# Altium footprint library Chips.PcbLib: 116 footprints (part 1 of 8)
Each footprint in its own frame and in the unit in brackets; x right, y up, seen from the top. Pads: shape width x height; smd on the part's side, far side on the other; paste and mask are expansions set on the pad; w line width, h text height; cw(c..) or ccw(c..) is an arc to the next point about the centre after c.
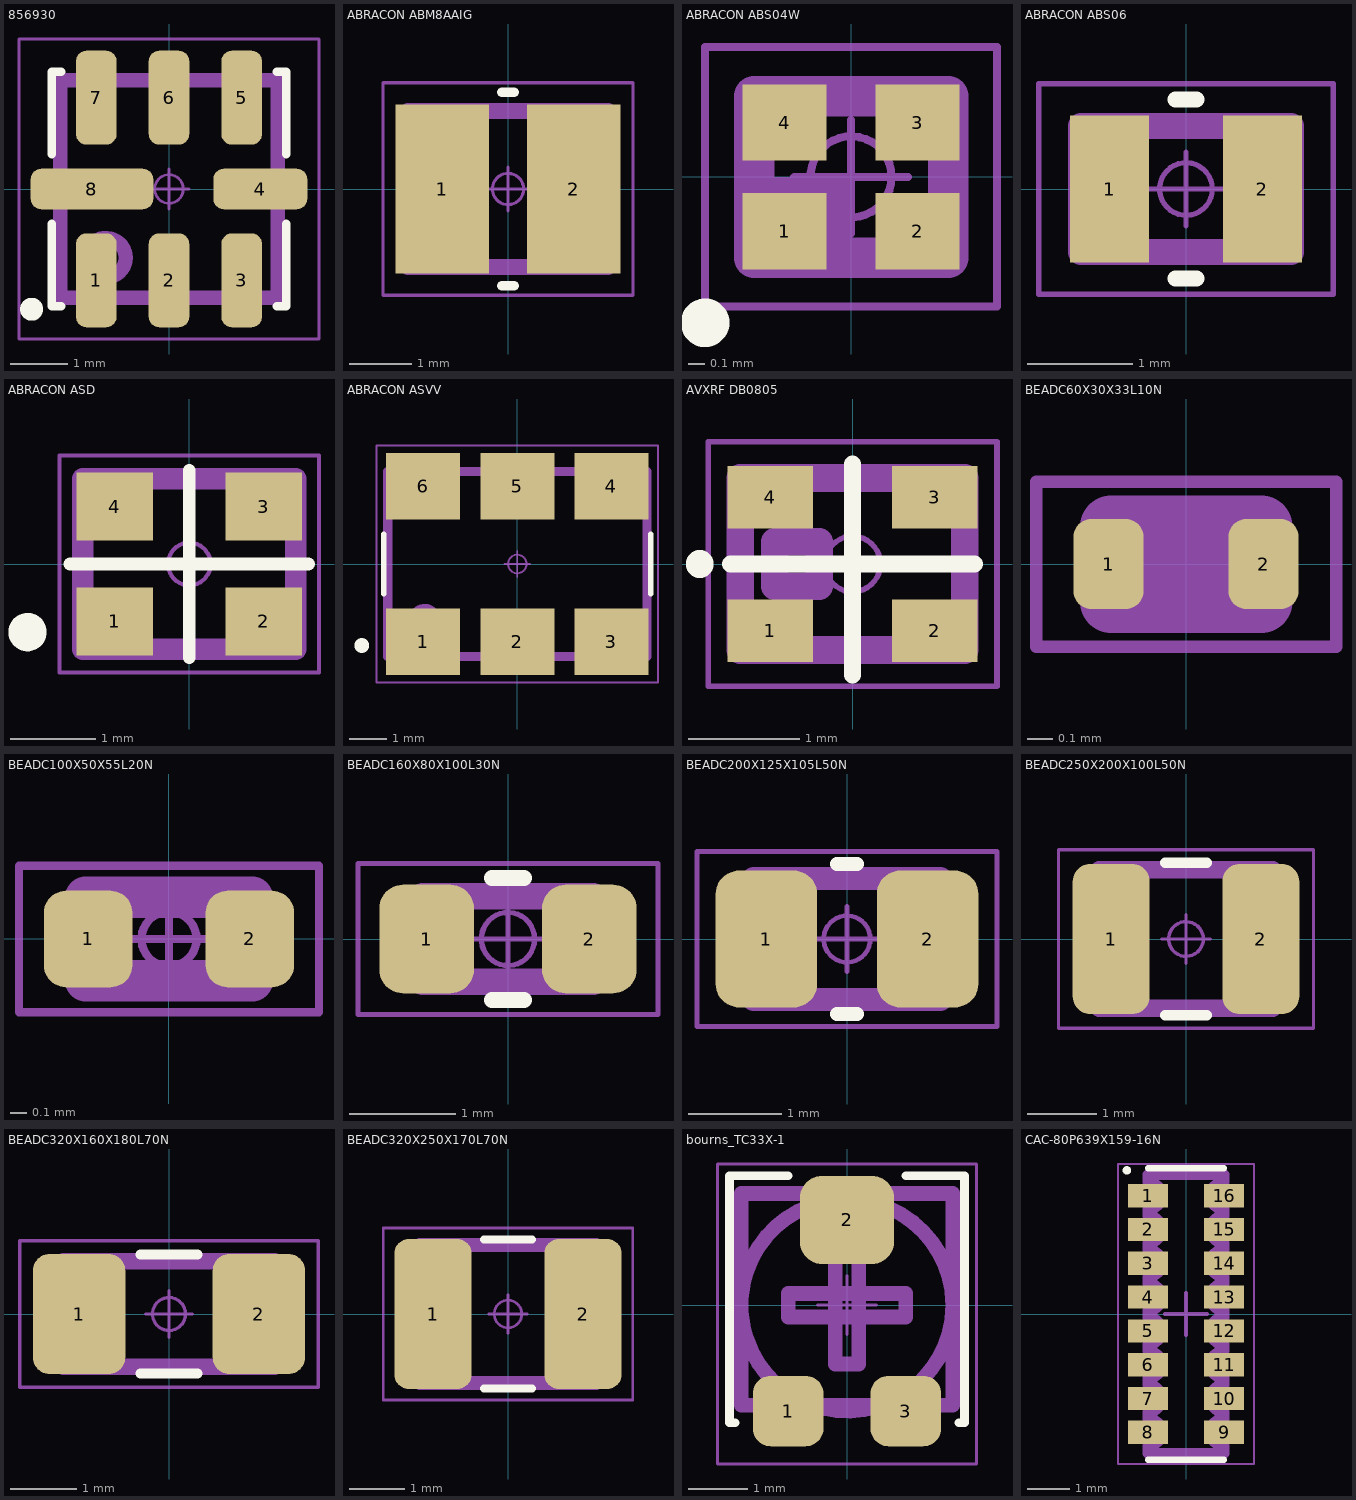
[diagram p0: the footprints below, top view; thin cyan lines are the x and y axes]

## 856930 [mm] "Leadless Chip Carrier (LCC), 1.27 mm pitch; square, 3 pin X 1 pin, 3.80 mm L X 3.80 mm W X 1.45 mm H body"
height 1.45
pads (8):
  rrect51% 0.71x1.64 smd: 1(-1.27,-1.595) 2(0,-1.595) 3(1.27,-1.595) 5(1.27,1.595) 6(0,1.595) 7(-1.27,1.595)
  rrect51% 1.64x0.71 smd: 4(1.595,0)
  rrect51% 2.14x0.71 smd: 8(-1.345,0)
Top Overlay:
  circle w0.2: c-2.4,-2.1 r0.1
  lines w0.15: -2.05,-0.61 -2.05,-2.05 -1.88,-2.05 ; -2.05,0.61 -2.05,2.05 -1.88,2.05 ; 1.88,-2.05 2.05,-2.05 2.05,-0.61 ; 1.88,2.05 2.05,2.05 2.05,0.61
Top Assembly:
  circle w0.25: c-1.1,-1.2 r0.344
  lines w0.25: -1.9,-1.9 -1.9,1.9 1.9,1.9 1.9,-1.9 -1.9,-1.9
  text ".Designator" at -1.8,-0.5 h1.5
Top Courtyard:
  circle w0.05: c0,0 r0.25
  lines w0.05: -0.35,0 0.35,0 ; 0,-0.35 0,0.35 ; -2.62,-2.62 -2.62,2.62 2.62,2.62 2.62,-2.62 -2.62,-2.62
3D body "856930.STEP": height 1.45, standoff 0, extent -1.95,-1.95 1.95,1.95

## ABRACON ABM8AAIG [mm] "Abracon ABM8AAIG Oscillator Chip 3.20 x 2.50 x 0.90 mm"
height 0.9
pads (2):
  rect 1.5x2.7 smd: 1(-1.05,0) 2(1.05,0)
Top Overlay:
  lines w0.15: -0.1,-1.55 0.1,-1.55 ; -0.1,1.55 0.1,1.55
Top Assembly:
  lines w0.254: -1.6,-1.25 1.6,-1.25 1.6,1.25 -1.6,1.25 -1.6,-1.25
  text ".Designator" at -3.378,-0.339 h1.5
Top Courtyard:
  circle w0.05: c0,0 r0.25
  lines w0.05: -0.35,0 0.35,0 ; 0,-0.35 0,0.35 ; -2,-1.7 -2,1.7 2,1.7 2,-1.7 -2,-1.7
3D body "ABM8AAIG.STEP": height 0.9, standoff 0, extent -1.6,-1.25 1.6,1.25

## ABRACON ABS04W [mm] "Abracon ABS04W Oscillator Chip 1.20 x 1.00 x 0.35 mm"
height 0.35
pads (4):
  rect 0.52x0.47 smd: 1(-0.41,-0.335) 2(0.41,-0.335) 3(0.41,0.335) 4(-0.41,0.335)
Top Overlay:
  circle w0.2: c-0.9,-0.9 r0.05
Top Assembly:
  rectangle: -0.6,-0.5 0,0
  lines w0.25: -0.598,-0.498 0.598,-0.498 0.598,0.498 -0.598,0.498 -0.598,-0.498
  text ".Designator" at -3.378,0.961 h1.5
Top Courtyard:
  circle w0.05: c0,0 r0.25
  lines w0.05: -0.35,0 0.35,0 ; 0,-0.35 0,0.35 ; -0.9,-0.8 0.9,-0.8 0.9,0.8 -0.9,0.8 -0.9,-0.8
3D body "ABS04W.STEP": height 0.34, standoff 0, extent -0.6,-0.5 0.6,0.5

## ABRACON ABS06 [mm] "Abracon ABS06 Oscillator Chip 2.00 x 1.20 x 0.60 mm"
height 0.6
pads (2):
  rect 0.75x1.4 smd: 1(-0.725,0) 2(0.725,0)
Top Overlay:
  lines w0.15: -0.1,-0.85 0.1,-0.85 ; -0.1,0.85 0.1,0.85
Top Assembly:
  lines w0.25: -0.998,-0.598 0.998,-0.598 0.998,0.598 -0.998,0.598 -0.998,-0.598
  text ".Designator" at -3.378,1.111 h1.5
Top Courtyard:
  circle w0.05: c0,0 r0.25
  lines w0.05: -0.35,0 0.35,0 ; 0,-0.35 0,0.35 ; -1.4,-1 -1.4,1 1.4,1 1.4,-1 -1.4,-1
3D body "ABS06.STEP": height 0.61, standoff 0, extent -1.003,-0.597 1.003,0.597

## ABRACON ASD [mm] "Abracon ASD Oscillator Chip 2.00 x 2.50 x 1.00 mm"
height 1
pads (4):
  rect 0.9x0.8 smd: 1(-0.875,-0.675) 2(0.875,-0.675) 3(0.875,0.675) 4(-0.875,0.675)
Top Overlay:
  circle w0.25: c-1.9,-0.8 r0.1
  lines w0.15: -1.4,0 1.4,0 ; 0,-1.1 0,1.1
Top Assembly:
  circle w0.25: c-0.85,-0.6 r0.158
  lines w0.25: -1.25,-1 1.25,-1 1.25,1 -1.25,1 -1.25,-1
  text ".Designator" at -3.378,-0.339 h1.5
Top Courtyard:
  circle w0.05: c0,0 r0.25
  lines w0.05: -0.35,0 0.35,0 ; 0,-0.35 0,0.35 ; -1.523,-1.273 1.523,-1.273 1.523,1.273 -1.523,1.273 -1.523,-1.273
3D body "ASD.STEP": height 0.96, standoff 0.01, extent -1.244,-1.005 1.256,0.995

## ABRACON ASVV [mm] "Abracon ASVV Oscillator Chip 7.0 x 5.0 x 2.0 mm"
height 2
pads (6):
  rect 2x1.8 smd paste-2539.97 mask+0.102: 1(-2.54,-2.1) 2(0,-2.1) 3(2.54,-2.1) 4(2.54,2.1) 5(0,2.1) 6(-2.54,2.1)
Top Overlay:
  circle w0.2: c-4.2,-2.2 r0.1
  lines w0.15: -3.6,-0.8 -3.6,0.8 ; 3.6,-0.8 3.6,0.8
Top Assembly:
  circle w0.25: c-2.5,-1.5 r0.3
  lines w0.25: -3.498,-2.498 3.498,-2.498 3.498,2.498 -3.498,2.498 -3.498,-2.498
  text ".Designator" at -3.378,-0.339 h1.5
Top Courtyard:
  circle w0.05: c0,0 r0.25
  lines w0.05: -0.35,0 0.35,0 ; 0,-0.35 0,0.35 ; -3.798,-3.198 3.798,-3.198 3.798,3.198 -3.798,3.198 -3.798,-3.198
3D body "ASVV.STEP": height 2, standoff 0, extent -3.5,-2.5 3.5,2.5

## AVXRF DB0805 [mm] "AVX RF case DB0805"
height 1.13
pads (4):
  rect 0.77x0.56 smd: 1(-0.74,-0.6) 2(0.74,-0.6) 3(0.74,0.6) 4(-0.74,0.6)
Top Overlay:
  circle w0.2: c-1.375,0 r0.025
  lines w0.15: -1.1,0 1.1,0 ; 0,-1 0,0.9
Top Assembly:
  lines w0.25: -1.01,-0.775 1.01,-0.775 1.01,0.775 -1.01,0.775 -1.01,-0.775 ; -0.7,-0.2 -0.3,-0.2 -0.3,0.2 -0.7,0.2 -0.7,-0.2
  text ".Designator" at -2,1.1 h1.5
Top Courtyard:
  circle w0.05: c0,0 r0.25
  lines w0.05: -0.35,0 0.35,0 ; 0,-0.35 0,0.35 ; -1.3,-1.1 1.3,-1.1 1.3,1.1 -1.3,1.1 -1.3,-1.1
3D body "DB0805.STEP": height 1.13, standoff 0, extent -1.015,-0.775 1.015,0.775

## BEADC60X30X33L10N [mm] "Ferrite Bead, Chip; 0.60 mm L X 0.30 mm W X 0.33 mm H body"
height 0.33
pads (2):
  rrect50% 0.28x0.36 smd: 1(-0.31,0) 2(0.31,0)
Top Assembly:
  lines w0.25: -0.3,-0.15 -0.3,0.15 0.3,0.15 0.3,-0.15 -0.3,-0.15
  text ".Designator" at 0,0 h1.5
Top Courtyard:
  circle w0.05: c0,0 r0.124
  lines w0.05: -0.165,0 0.165,0 ; 0,-0.165 0,0.165 ; -0.6,-0.33 -0.6,0.33 0.6,0.33 0.6,-0.33 -0.6,-0.33
3D body "BEADC60X30X33L10.STEP": height 0.33, standoff 0, extent -0.3,-0.15 0.3,0.15

## BEADC100X50X55L20N [mm] "Ferrite Bead, Chip; 1.00 mm L X 0.50 mm W X 0.55 mm H body"
height 0.55
pads (2):
  rrect49% 0.53x0.58 smd: 1(-0.485,0) 2(0.485,0)
Top Assembly:
  lines w0.25: -0.5,-0.25 -0.5,0.25 0.5,0.25 0.5,-0.25 -0.5,-0.25
  text ".Designator" at 0,0 h1.5
Top Courtyard:
  circle w0.05: c0,0 r0.165
  lines w0.05: -0.22,0 0.22,0 ; 0,-0.22 0,0.22 ; -0.9,-0.44 -0.9,0.44 0.9,0.44 0.9,-0.44 -0.9,-0.44
3D body "BEADC100X50X55L20.STEP": height 0.55, standoff 0, extent -0.5,-0.25 0.5,0.25

## BEADC160X80X100L30N [mm] "Ferrite Bead, Chip; 1.60 mm L X 0.80 mm W X 1.00 mm H body"
height 1
pads (2):
  rrect49% 0.89x1.02 smd: 1(-0.765,0) 2(0.765,0)
Top Overlay:
  lines w0.15: -0.15,-0.575 0.15,-0.575 ; -0.15,0.575 0.15,0.575
Top Assembly:
  lines w0.25: -0.8,-0.4 0.8,-0.4 0.8,0.4 -0.8,0.4 -0.8,-0.4
  text ".Designator" at -2.5,0.8 h1.5
Top Courtyard:
  circle w0.05: c0,0 r0.25
  lines w0.05: -0.35,0 0.35,0 ; 0,-0.35 0,0.35 ; -1.41,-0.71 1.41,-0.71 1.41,0.71 -1.41,0.71 -1.41,-0.71
3D body "BEADC160X80X100L30.STEP": height 1, standoff 0, extent -0.8,-0.4 0.8,0.4

## BEADC200X125X105L50N [mm] "Ferrite Bead, Chip; 2.00 mm L X 1.25 mm W X 1.05 mm H body"
height 1.05
pads (2):
  rrect46% 1.09x1.47 smd: 1(-0.865,0) 2(0.865,0)
Top Overlay:
  lines w0.15: -0.11,-0.805 0.11,-0.805 ; -0.11,0.805 0.11,0.805
Top Assembly:
  lines w0.25: -1,-0.65 1,-0.65 1,0.65 -1,0.65 -1,-0.65
  text ".Designator" at -3.378,-0.339 h1.5
Top Courtyard:
  circle w0.05: c0,0 r0.25
  lines w0.05: -0.35,0 0.35,0 ; 0,-0.35 0,0.35 ; -1.61,-0.94 1.61,-0.94 1.61,0.94 -1.61,0.94 -1.61,-0.94
3D body "BEADC200X125X105L50.STEP": height 1.05, standoff 0, extent -1,-0.625 1,0.625

## BEADC250X200X100L50N [mm] "Ferrite Bead, Chip; 2.50 mm L X 2.00 mm W X 1.00 mm H body"
height 1
pads (2):
  rrect45% 1.11x2.17 smd: 1(-1.08,0) 2(1.08,0)
Top Overlay:
  lines w0.15: -0.3,-1.1 0.3,-1.1 ; -0.3,1.1 0.3,1.1
Top Assembly:
  lines w0.25: -1.25,-1 -1.25,1 1.25,1 1.25,-1 -1.25,-1
  text ".Designator" at -3.378,-0.339 h1.5
Top Courtyard:
  circle w0.05: c0,0 r0.25
  lines w0.05: -0.35,0 0.35,0 ; 0,-0.35 0,0.35 ; -1.84,-1.29 -1.84,1.29 1.84,1.29 1.84,-1.29 -1.84,-1.29
3D body "BEADC250X200X100L50.STEP": height 1, standoff 0, extent -1.25,-1 1.25,1

## BEADC320X160X180L70N [mm] "Ferrite Bead, Chip; 3.20 mm L X 1.60 mm W X 1.80 mm H body"
height 1.8
pads (2):
  rrect36% 1.4x1.82 smd: 1(-1.36,0) 2(1.36,0)
Top Overlay:
  lines w0.15: -0.435,-0.9 0.435,-0.9 ; -0.435,0.9 0.435,0.9
Top Assembly:
  lines w0.25: -1.6,-0.8 1.6,-0.8 1.6,0.8 -1.6,0.8 -1.6,-0.8
  text ".Designator" at -3.378,-0.339 h1.5
Top Courtyard:
  circle w0.05: c0,0 r0.25
  lines w0.05: -0.35,0 0.35,0 ; 0,-0.35 0,0.35 ; -2.26,-1.11 2.26,-1.11 2.26,1.11 -2.26,1.11 -2.26,-1.11
3D body "BEADC320X160X180L70.STEP": height 1.8, standoff 0, extent -1.6,-0.8 1.6,0.8

## BEADC320X250X170L70N [mm] "Ferrite Bead, Chip; 3.20 mm L X 2.50 mm W X 1.70 mm H body"
height 1.7
pads (2):
  rrect36% 1.4x2.72 smd: 1(-1.36,0) 2(1.36,0)
Top Overlay:
  lines w0.15: -0.435,-1.35 0.435,-1.35 ; -0.435,1.35 0.435,1.35
Top Assembly:
  lines w0.25: -1.6,-1.25 1.6,-1.25 1.6,1.25 -1.6,1.25 -1.6,-1.25
  text ".Designator" at -3.378,-0.339 h1.5
Top Courtyard:
  circle w0.05: c0,0 r0.25
  lines w0.05: -0.35,0 0.35,0 ; 0,-0.35 0,0.35 ; -2.26,-1.56 2.26,-1.56 2.26,1.56 -2.26,1.56 -2.26,-1.56
3D body "BEADC320X250X170L70.STEP": height 1.7, standoff 0, extent -1.6,-1.25 1.6,1.25

## bourns_TC33X-1 [mm] "Trimmer Potenciometer, Bourns,  3.6 mm X 3.8 mm X 1.2 mm"
height 1.2
pads (3):
  rrect50% 1.2x1.2 smd: 1(-1,-1.8) 3(1,-1.8)
  rrect50% 1.6x1.5 smd: 2(0,1.45)
Top Overlay:
  lines w0.15: -1.9,-2 -2,-2 -2,2.2 -1,2.2 ; 1,2.2 2,2.2 2,-2 1.9,-2
Top Assembly:
  circle w0.25: c0,0 r1.8
  lines w0.25: -1.8,-1.7 1.8,-1.7 1.8,1.9 -1.8,1.9 -1.8,-1.7 ; -1,-0.2 1,-0.2 1,0.2 -1,0.2 -1,-0.2 ; -0.2,-1 0.2,-1 0.2,1 -0.2,1 -0.2,-1
  text ".Designator" at -3.5,2.6 h1.5
Top Courtyard:
  circle w0.05: c0,0 r0.25
  lines w0.05: -0.5,0 0.5,0 ; 0,-0.5 0,0.5 ; -2.2,-2.7 2.2,-2.7 2.2,2.4 -2.2,2.4 -2.2,-2.7
3D body "TC-33X-1.stp": height 1.13, standoff -0.03, extent -1.8,-1.863 1.8,2

## CAC-80P639X159-16N [mm] "Chip Array, Concave, 16-Leads, Pitch 0.80mm,  Body 6.40x1.60mm,  IPC Medium Density"
height 0.7
pads (16):
  rect 0.95x0.55 smd: 1(-0.9,2.8) 2(-0.9,2) 3(-0.9,1.2) 4(-0.9,0.4) 5(-0.9,-0.4) 6(-0.9,-1.2) 7(-0.9,-2) 8(-0.9,-2.8) 9(0.9,-2.8) 10(0.9,-2) 11(0.9,-1.2) 12(0.9,-0.4) 13(0.9,0.4) 14(0.9,1.2) 15(0.9,2) 16(0.9,2.8)
Top Overlay:
  circle w0.1: c-1.4,3.4 r0.05
  lines w0.15: -0.9,-3.45 0.9,-3.45 ; -0.9,3.45 0.9,3.45
Top Assembly:
  lines w0.25: -0.9,-3.3 0.9,-3.3 0.9,-3.125 cw(c0.9,-2.8) 0.9,-2.475 0.9,-2.325 cw(c0.9,-2) 0.9,-1.675 0.9,-1.525 cw(c0.9,-1.2) 0.9,-0.875 0.9,-0.725 cw(c0.9,-0.4) 0.9,-0.075 0.9,0.075 cw(c0.9,0.4) 0.9,0.725 0.9,0.875 cw(c0.9,1.2) 0.9,1.525 0.9,1.675 cw(c0.9,2) 0.9,2.325 0.9,2.475 cw(c0.9,2.8) 0.9,3.125 0.9,3.3 -0.9,3.3 -0.9,3.125 cw(c-0.9,2.8) -0.9,2.475 -0.9,2.325 cw(c-0.9,2) -0.9,1.675 -0.9,1.525 cw(c-0.9,1.2) -0.9,0.875 -0.9,0.725 cw(c-0.9,0.4) -0.9,0.075 -0.9,-0.075 cw(c-0.9,-0.4) -0.9,-0.725 -0.9,-0.875 cw(c-0.9,-1.2) -0.9,-1.525 -0.9,-1.675 cw(c-0.9,-2) -0.9,-2.325 -0.9,-2.475 cw(c-0.9,-2.8) -0.9,-3.125 -0.9,-3.3
  text ".Designator" at -1.5,-2.2 h1.5
Top Courtyard:
  lines w0.05: -1.61,-3.55 1.61,-3.55 1.61,3.55 -1.61,3.55 -1.61,-3.55
  lines w0.1: -0.5,0 0.5,0 ; 0,-0.5 0,0.5
3D body "CAC-80P639X159-16N.step": height 0.7, standoff 0, extent -0.95,-3.3 0.95,3.3